# Altium footprint library gyh的PCB库 .PcbLib: 41 footprints (part 2 of 3)
Each footprint in its own frame and in the unit in brackets; x right, y up, seen from the top. Pads: shape width x height; smd on the part's side, far side on the other; paste and mask are expansions set on the pad; w line width, h text height; cw(c..) or ccw(c..) is an arc to the next point about the centre after c.
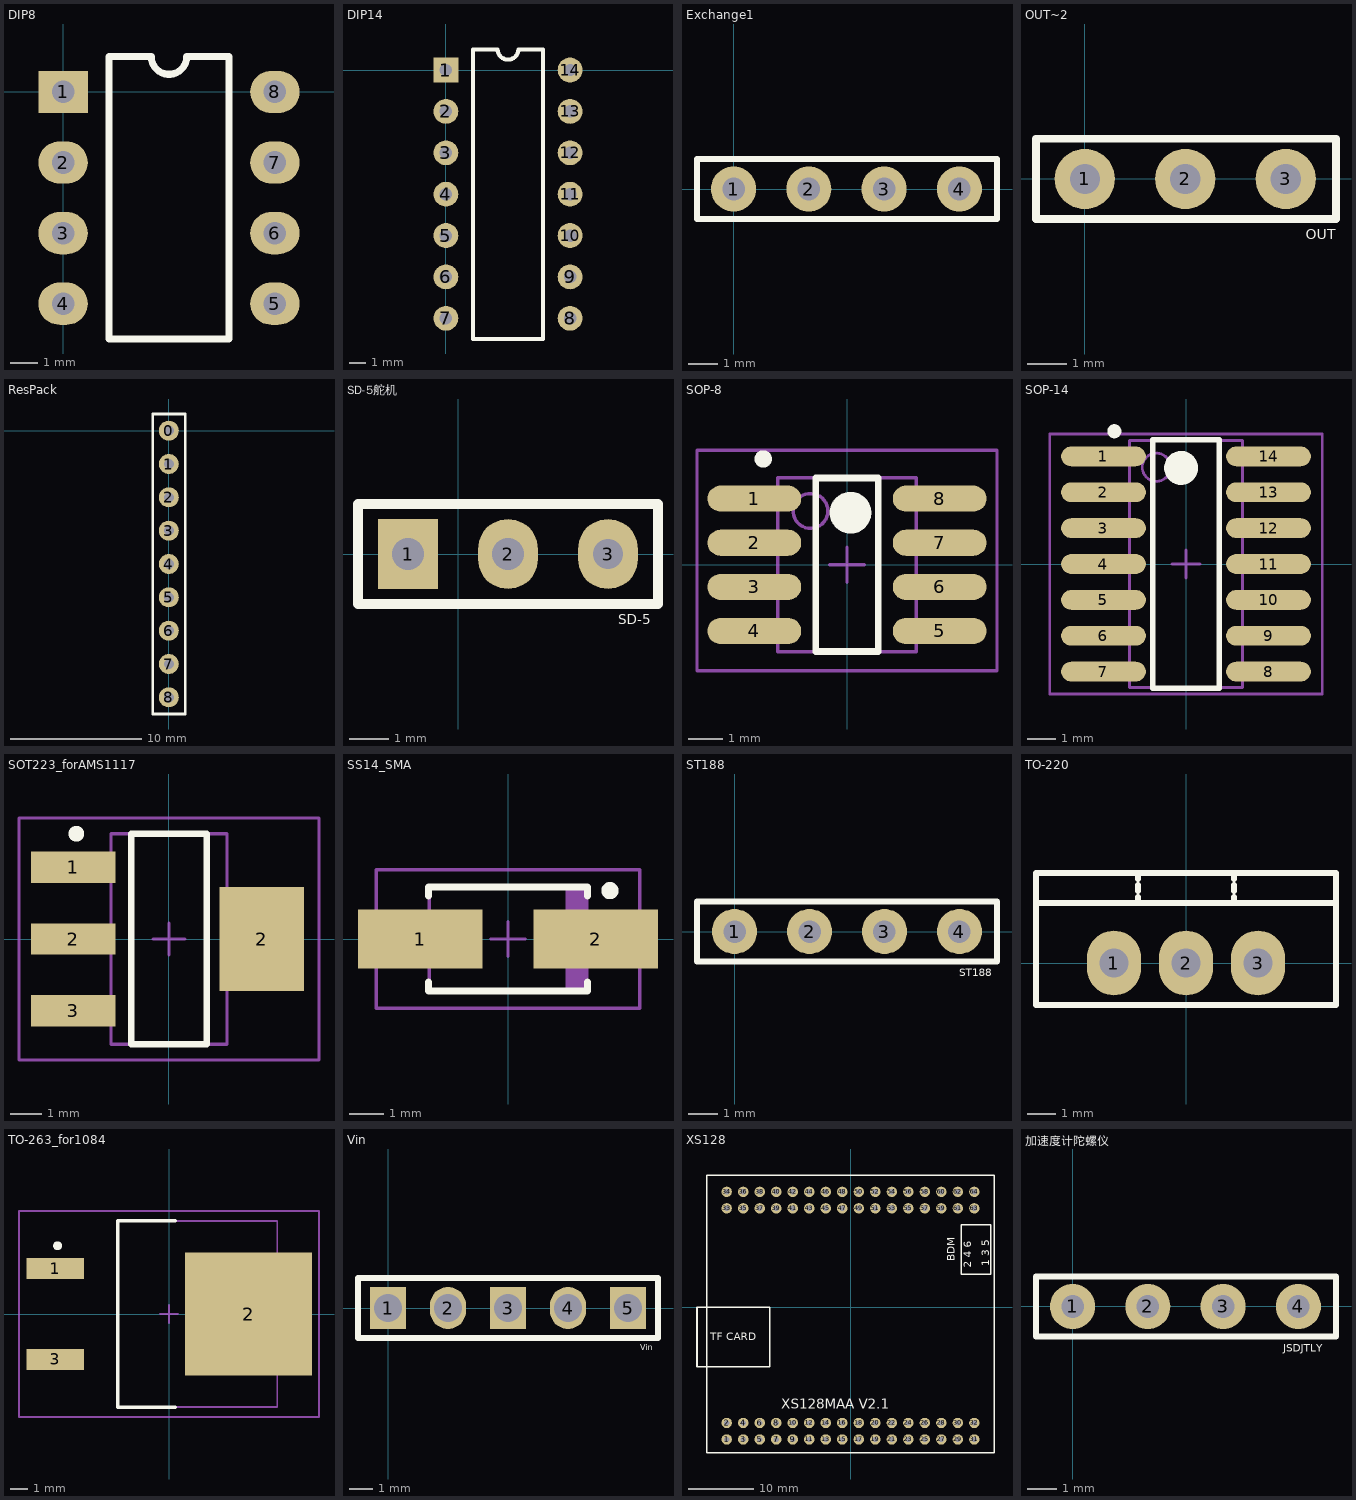
[diagram p1: the footprints below, top view; thin cyan lines are the x and y axes]

## DIP8 [mil]
pads (8):
  rect 70x60 hole 32: 1(0,0)
  oval 70x60 hole 32: 2(0,-100) 3(0,-200) 4(0,-300) 5(300,-300) 6(300,-200) 7(300,-100) 8(300,0)
Top Overlay:
  lines w10: 65,-350 65,50 125,50 ccw(c150,50) 175,50 235,50 235,-350 65,-350

## DIP14 [mil]
pads (14):
  rect 60x60 hole 30: 1(0,0)
  round 60 hole 30: 2(0,-100) 3(0,-200) 4(0,-300) 5(0,-400) 6(0,-500) 7(0,-600) 8(300,-600) 9(300,-500) 10(300,-400) 11(300,-300) 12(300,-200) 13(300,-100) 14(300,0)
Top Overlay:
  lines w10: 65,-650 65,50 125,50 ccw(c150,50) 175,50 235,50 235,-650 65,-650

## Exchange1 [mil]
pads (4):
  round 60 hole 30: 1(0,0) 2(100,0) 3(200,0) 4(300,0)
Top Overlay:
  lines w7.87: -48.62,-40 -48.62,40 350,40 350,-40 -48.62,-40

## OUT~2 [mil]
pads (3):
  round 60 hole 30: 1(0,0) 2(100,0) 3(200,0)
Top Overlay:
  lines w7.87: -48.62,-40 250,-40 250,40 -48.62,40 -48.62,-40
  text "OUT" at 220,-60 h10

## ResPack [mil]
pads (9):
  round 60 hole 30: 0(0,0) 1(0,-100) 2(0,-200) 3(0,-300) 4(0,-400) 5(0,-500) 6(0,-600) 7(0,-700) 8(0,-800)
Top Overlay:
  lines w7.87: -48.62,-850 50,-850 50,50 -48.62,50 -48.62,-850

## SD-5舵机 [mil]
pads (3):
  rect 60x70 hole 32: 1(-50,0)
  oval 60x70 hole 32: 2(50,0)
  oval 60x70 hole 30: 3(150,0)
Top Overlay:
  lines w10: -100,-50 200,-50 200,50 -100,50 -100,-50
  text "SD-5" at 160,-70 h10

## SOP-8 [mm] "SOIC, 8-Leads, Body 5.0x4.0mm (max), Pitch 1.27mm, IPC Medium Density"
height 1.75
pads (8):
  oval 2.7x0.75 smd: 1(-2.667,1.905) 2(-2.667,0.635) 3(-2.667,-0.635) 4(-2.667,-1.905) 5(2.667,-1.905) 6(2.667,-0.635) 7(2.667,0.635) 8(2.667,1.905)
Top Overlay:
  circle w0.6: c0.1,1.5 r0.3
  circle w0.25: c-2.411,3.048 r0.125
  lines w0.2: -0.9,-2.5 0.9,-2.5 0.9,2.5 -0.9,2.5 -0.9,-2.5
Mechanical 13:
  circle w0.1: c-1.05,1.55 r0.5
  lines w0.1: -2,-2.5 2,-2.5 2,2.5 -2,2.5 -2,-2.5
Mechanical 15:
  lines w0.1: -0.5,0 0.5,0 ; 0,-0.5 0,0.5 ; -4.318,-3.048 4.318,-3.048 4.318,3.302 -4.318,3.302 -4.318,-3.048
3D body: height 1.75, standoff 0.25, extent -2,-2.5 2,2.5

## SOP-14 [mm] "SOIC, 14-Leads, Body 8.8x4.0mm (max), Pitch 1.27mm, IPC Medium Density"
height 1.75
pads (14):
  oval 3x0.7 smd: 1(-2.921,3.81) 2(-2.921,2.54) 3(-2.921,1.27) 4(-2.921,0) 5(-2.921,-1.27) 6(-2.921,-2.54) 7(-2.921,-3.81) 8(2.921,-3.81) 9(2.921,-2.54) 10(2.921,-1.27) 11(2.921,0) 12(2.921,1.27) 13(2.921,2.54) 14(2.921,3.81)
Top Overlay:
  circle w0.6: c-0.175,3.4 r0.3
  circle w0.25: c-2.538,4.699 r0.125
  lines w0.2: -1.175,-4.4 1.175,-4.4 1.175,4.4 -1.175,4.4 -1.175,-4.4
Mechanical 13:
  circle w0.1: c-1.05,3.425 r0.5
  lines w0.1: -2,-4.375 2,-4.375 2,4.375 -2,4.375 -2,-4.375
Mechanical 15:
  lines w0.1: -0.5,0 0.5,0 ; 0,-0.5 0,0.5 ; -4.826,-4.6 4.826,-4.6 4.826,4.6 -4.826,4.6 -4.826,-4.6
3D body: height 1.75, standoff 0.25, extent -2,-4.375 2,4.375

## SOT223_forAMS1117 [mm] "SOT223, 4-Leads, Body 6.7x7.3mm (max), Pitch 2.30mm, IPC Low Density"
height 1.8
pads (4):
  rect 2.7x1 smd: 1(-3.048,2.286) 2(-3.048,0) 3(-3.048,-2.286)
  rect 2.7x3.3 smd: 2(2.95,0)
Top Overlay:
  circle w0.25: c-2.95,3.35 r0.125
  lines w0.2: -1.2,-3.35 1.2,-3.35 1.2,3.35 -1.2,3.35 -1.2,-3.35
Mechanical 13:
  lines w0.1: -1.85,-3.35 1.85,-3.35 1.85,3.35 -1.85,3.35 -1.85,-3.35
Mechanical 15:
  lines w0.1: -0.5,0 0.5,0 ; 0,-0.5 0,0.5 ; -4.775,-3.85 4.775,-3.85 4.775,3.85 -4.775,3.85 -4.775,-3.85
3D body: height 1.8, standoff 0.02, extent -1.85,-3.35 1.85,3.35

## SS14_SMA [mm] "Molded Diode, 2-Leads, Body 4.3x2.6mm, IPC Low Density"
height 2.62
pads (2):
  rect 3.6x1.7 smd: 1(-2.54,0) 2(2.54,0)
Top Overlay:
  circle w0.25: c2.95,1.4 r0.125
  lines w0.2: -2.3,-1.25 -2.3,-1.5 2.3,-1.5 2.3,-1.25 ; -2.3,1.25 -2.3,1.5 2.3,1.5 2.3,1.25
Mechanical 13:
  rectangle: 1.67,-1.5 2.285,1.5
  lines w0.1: -2.285,-1.5 2.285,-1.5 2.285,1.5 -2.285,1.5 -2.285,-1.5
Mechanical 15:
  lines w0.1: -0.5,0 0.5,0 ; 0,-0.5 0,0.5 ; -3.81,-2 3.81,-2 3.81,2 -3.81,2 -3.81,-2
3D body: height 2.62, standoff 0, extent -2.285,-1.5 2.285,1.5

## ST188 [mil]
pads (4):
  round 60 hole 30: 1(0,0) 2(100,0) 3(200,0) 4(300,0)
Top Overlay:
  lines w7.87: -50,-40 350,-40 350,40 -50,40 -50,-40
  text "ST188" at 300,-60 h10

## TO-220 [mil]
pads (3):
  oval 75x90 hole 40: 1(-100,0) 2(0,0) 3(100,0)
Top Overlay:
  lines w7.87: -66.67,83.33 -66.67,91.67 ; -66.67,100 -66.67,108.33 ; -66.67,116.67 -66.67,125 ; 66.67,83.33 66.67,91.67 ; 66.67,100 66.67,108.33 ; 66.67,116.67 66.67,125 ; -208.33,83.33 208.33,83.33 ; -208.33,83.33 -208.33,-58.33 208.33,-58.33 208.33,83.33 ; -208.33,83.33 -208.33,125 208.33,125 208.33,83.33

## TO-263_for1084 [mm] "D2-PAK, 3-Pads, Body 8.9x10.4mm (max), IPC Low Density"
height 4.64
pads (3):
  rect 3.2x1.15 smd: 1(-6.35,2.54) 3(-6.35,-2.54)
  rect 7.1x6.85 smd: 2(4.445,0)
Top Overlay:
  circle w0.25: c-6.221,3.81 r0.125
  lines w0.2: 0.35,-5.2 -2.85,-5.2 -2.85,5.2 0.35,5.2
Mechanical 13:
  lines w0.1: -2.85,-5.2 6.04,-5.2 6.04,5.2 -2.85,5.2 -2.85,-5.2
Mechanical 15:
  lines w0.1: -0.5,0 0.5,0 ; 0,-0.5 0,0.5 ; -8.375,-5.75 8.375,-5.75 8.375,5.75 -8.375,5.75 -8.375,-5.75
3D body: height 4.64, standoff 0.86, extent -2.85,-5.2 6.04,5.2

## Vin [mil]
pads (5):
  rect 60x70 hole 47.24: 1(0,0) 3(200,0) 5(400,0)
  oval 60x70 hole 47.24: 2(100,0) 4(300,0)
Top Overlay:
  lines w10: -50,-50 450,-50 450,50 -50,50 -50,-50
  text "Vin" at 420,-70 h10

## XS128 [mm]
pads (64):
  round 1.6 hole 0.8: 1(-19.05,-20.32) 2(-19.05,-17.78) 3(-16.51,-20.32) 4(-16.51,-17.78) 5(-13.97,-20.32) 6(-13.97,-17.78) 7(-11.43,-20.32) 8(-11.43,-17.78) 9(-8.89,-20.32) 10(-8.89,-17.78) 11(-6.35,-20.32) 12(-6.35,-17.78) 13(-3.81,-20.32) 14(-3.81,-17.78) 15(-1.27,-20.32) 16(-1.27,-17.78) 17(1.27,-20.32) 18(1.27,-17.78) 19(3.81,-20.32) 20(3.81,-17.78) 21(6.35,-20.32) 22(6.35,-17.78) 23(8.89,-20.32) 24(8.89,-17.78) 25(11.43,-20.32) 26(11.43,-17.78) 27(13.97,-20.32) 28(13.97,-17.78) 29(16.51,-20.32) 30(16.51,-17.78) 31(19.05,-20.32) 32(19.05,-17.78) 33(-19.05,15.24) 34(-19.05,17.78) 35(-16.51,15.24) 36(-16.51,17.78) 37(-13.97,15.24) 38(-13.97,17.78) 39(-11.43,15.24) 40(-11.43,17.78) 41(-8.89,15.24) 42(-8.89,17.78) 43(-6.35,15.24) 44(-6.35,17.78) 45(-3.81,15.24) 46(-3.81,17.78) 47(-1.27,15.24) 48(-1.27,17.78) 49(1.27,15.24) 50(1.27,17.78) 51(3.81,15.24) 52(3.81,17.78) 53(6.35,15.24) 54(6.35,17.78) 55(8.89,15.24) 56(8.89,17.78) 57(11.43,15.24) 58(11.43,17.78) 59(13.97,15.24) 60(13.97,17.78) 61(16.51,15.24) 62(16.51,17.78) 63(19.05,15.24) 64(19.05,17.78)
Top Overlay:
  lines w0.254: -23.622,-9.144 -23.622,0 -12.446,0 -12.446,-9.144 -23.622,-9.144 ; -22.098,-22.352 -22.098,-20.32 -22.098,20.32 22.098,20.32 22.098,-22.352 -22.098,-22.352 ; 17.018,5.08 17.018,12.7 21.59,12.7 21.59,5.08 17.018,5.08
  text "2 4 6" at 18.542,6.096 h1.2
  text "1 3 5" at 21.336,6.35 h1.2
  text "TF CARD" at -21.59,-5.08 h1.2
  text "BDM" at 16.002,7.112 h1.2
  text "XS128MAA V2.1" at -10.668,-15.621 h1.52

## 加速度计陀螺仪 [mil]
pads (4):
  round 60 hole 30: 1(0,0) 2(100,0) 3(200,0) 4(300,0)
Top Overlay:
  lines w7.87: -48.62,-40 350,-40 350,40 -48.62,40 -48.62,-40
  text "JSDJTLY" at 280,-60 h10